# EAGLE library part FRONT-FULL (library Dimensions)
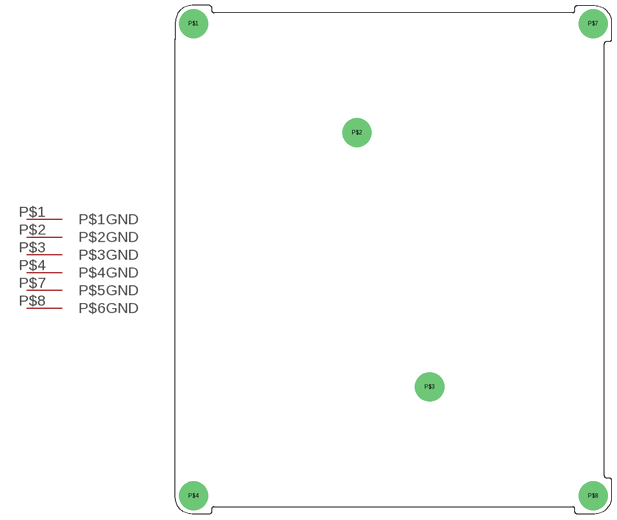
[diagram p0: symbol with the pads of FRONT-FULL; footprint FRONT-FULL]

Designator prefix -

## FRONT-FULL  [FRONT-FULL]
P$1  P$1GND
P$2  P$2GND
P$3  P$3GND
P$4  P$4GND
P$7  P$5GND
P$8  P$6GND

## Footprint FRONT-FULL (pad centres in mm)
drill 3.1 pad 8: P$1 5,135; P$2 50,105; P$3 70,35; P$4 5,5; P$7 115,135; P$8 115,5